# EAGLE library part LM2592HVS-5.0 (library kotuku)
SIMPLE SWITCHER
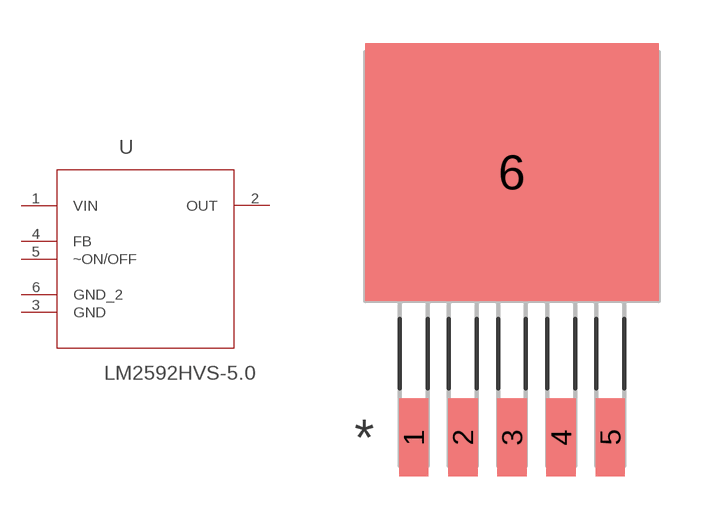
[diagram p4: symbol with the pads of TO170P1435X457-5N; footprint TO170P1435X457-5N]

Designator prefix U

## LM2592HVS-5.0 (MPN: LM2592HVS-5.0; OC_FARNELL: -; OC_NEWARK: 41K3791; PACKAGE: TO-263-5; SUPPLIER: National Semiconductor)  [TO170P1435X457-5N]
1  VIN  pwr
2  OUT  out
3  GND  pas
4  FB  in
5  ~ON/OFF  in
6  GND_2  pas

## Footprint TO170P1435X457-5N (pad centres in mm)
smd 1.016 x 2.692: 1 -3.404,-9.042; 2 -1.702,-9.042; 3 0,-9.042; 4 1.702,-9.042; 5 3.404,-9.042
smd 10.16 x 8.941: 6 0,0.152